# Altium footprint library SMD_R.PcbLib: 17 footprints (part 1 of 2)
Each footprint in its own frame and in the unit in brackets; x right, y up, seen from the top. Pads: shape width x height; smd on the part's side, far side on the other; paste and mask are expansions set on the pad; w line width, h text height; cw(c..) or ccw(c..) is an arc to the next point about the centre after c.
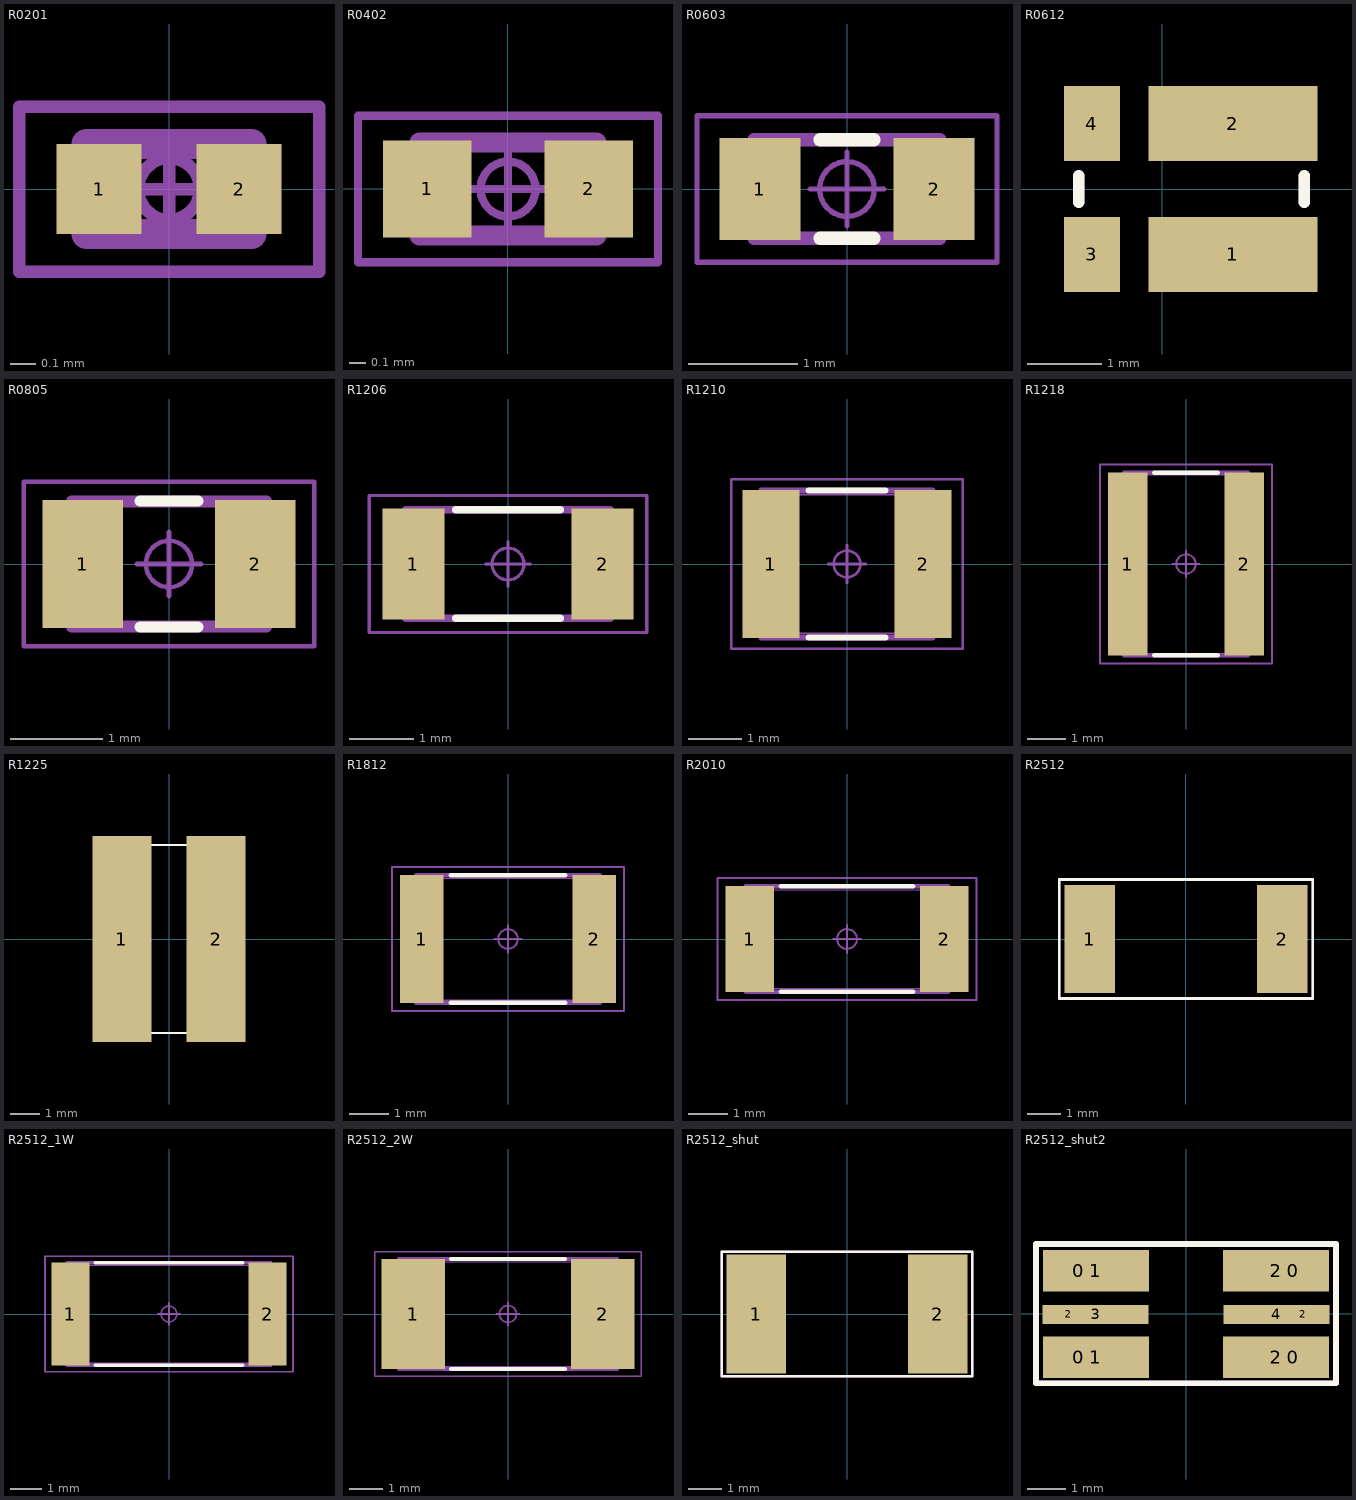
[diagram p0: the footprints below, top view; thin cyan lines are the x and y axes]

## R0201 [mm] "Resistor, Chip; 0.60 mm L X 0.30 mm W X 0.28 mm H body"
height 0.28
pads (2):
  rect 0.34x0.36 smd: 1(-0.28,0) 2(0.28,0)
Mechanical 11:
  circle w0.05: c0,0 r0.124
  lines w0.05: -0.165,0 0.165,0 ; 0,-0.165 0,0.165 ; -0.6,-0.33 0.6,-0.33 0.6,0.33 -0.6,0.33 -0.6,-0.33
Mechanical 12:
  lines w0.025: -0.3,-0.15 0.3,-0.15 ; -0.3,-0.15 -0.3,0.15 ; -0.3,-0.15 -0.3,0.15 ; -0.3,-0.15 -0.15,-0.15 -0.15,0.15 -0.3,0.15 ; -0.3,0.15 0.3,0.15 ; 0.3,-0.15 0.3,0.15 ; 0.3,-0.15 0.15,-0.15 0.15,0.15 0.3,0.15 ; 0.3,-0.15 0.3,0.15
Mechanical 15:
  lines w0.12: -0.33,-0.18 0.33,-0.18 0.33,0.18 -0.33,0.18 -0.33,-0.18
3D body "RES 0201.STEP": height 0.28, standoff 0, extent -0.3,-0.15 0.3,0.15

## R0402 [mm] "Resistor, Chip; 1.00 mm L X 0.50 mm W X 0.40 mm H body"
height 0.4
pads (2):
  rect 0.53x0.58 smd: 1(-0.485,0) 2(0.485,0)
Mechanical 11:
  circle w0.05: c0,0 r0.165
  lines w0.05: -0.22,0 0.22,0 ; 0,-0.22 0,0.22 ; -0.9,-0.44 0.9,-0.44 0.9,0.44 -0.9,0.44 -0.9,-0.44
Mechanical 12:
  lines w0.025: -0.5,-0.25 0.5,-0.25 ; -0.5,-0.25 -0.5,0.25 ; -0.5,-0.25 -0.5,0.25 ; -0.5,-0.25 -0.3,-0.25 -0.3,0.25 -0.5,0.25 ; -0.5,0.25 0.5,0.25 ; 0.5,-0.25 0.5,0.25 ; 0.5,-0.25 0.3,-0.25 0.3,0.25 0.5,0.25 ; 0.5,-0.25 0.5,0.25
Mechanical 15:
  lines w0.12: -0.53,-0.28 0.53,-0.28 0.53,0.28 -0.53,0.28 -0.53,-0.28
3D body "RES 0402.STEP": height 0.4, standoff 0, extent -0.5,-0.25 0.5,0.25

## R0603 [mm] "Resistor, Chip; 1.60 mm L X 0.80 mm W X 0.55 mm H body"
height 0.55
pads (2):
  rect 0.74x0.93 smd: 1(-0.795,0) 2(0.795,0)
Top Overlay:
  lines w0.12: -0.245,-0.45 0.245,-0.45 ; -0.245,0.45 0.245,0.45
Mechanical 11:
  circle w0.05: c0,0 r0.25
  lines w0.05: -0.335,0 0.335,0 ; 0,-0.335 0,0.335 ; -1.37,-0.67 -1.37,0.67 1.37,0.67 1.37,-0.67 -1.37,-0.67
Mechanical 12:
  lines w0.025: -0.8,-0.4 -0.55,-0.4 -0.55,0.4 -0.8,0.4 ; -0.8,-0.4 -0.8,0.4 ; -0.8,-0.4 -0.8,0.4 ; -0.8,-0.4 0.8,-0.4 ; -0.8,0.4 0.8,0.4 ; 0.8,-0.4 0.8,0.4 ; 0.8,-0.4 0.55,-0.4 0.55,0.4 0.8,0.4 ; 0.8,-0.4 0.8,0.4
Mechanical 15:
  lines w0.12: -0.85,-0.45 -0.85,0.45 0.85,0.45 0.85,-0.45 -0.85,-0.45
3D body "RES 0603.STEP": height 0.55, standoff 0, extent -0.8,-0.4 0.8,0.4

## R0612 [mm] "贴片电阻2512封装"
height 0.6
pads (4):
  rect 2.287x1.01 smd: 1(0.953,-0.885) 2(0.953,0.885)
  rect 0.762x1.01 smd: 3(-0.953,-0.885) 4(-0.953,0.885)
Top Overlay:
  lines w0.152: -1.13,-0.18 -1.13,0.18 ; 1.92,-0.18 1.92,0.18
Mechanical 15:
  lines w0.152: -1.13,-0.18 -1.13,0.18 ; 1.92,-0.18 1.92,0.18
3D body "R0612.stp": height 0.65, standoff 0, extent -1.131,-0.825 1.919,0.825

## R0805 [mm] "Resistor, Chip; 2.00 mm L X 1.25 mm W X 0.60 mm H body"
height 0.6
pads (2):
  rect 0.87x1.38 smd: 1(-0.93,0) 2(0.93,0)
Top Overlay:
  lines w0.12: -0.315,-0.68 0.315,-0.68 ; -0.315,0.68 0.315,0.68
Mechanical 11:
  circle w0.05: c0,0 r0.25
  lines w0.05: -0.35,0 0.35,0 ; 0,-0.35 0,0.35 ; -1.57,-0.89 -1.57,0.89 1.57,0.89 1.57,-0.89 -1.57,-0.89
Mechanical 12:
  lines w0.025: -1,-0.625 -0.65,-0.625 -0.65,0.625 -1,0.625 ; -1,-0.625 -1,0.625 ; -1,-0.625 -1,0.625 ; -1,-0.625 1,-0.625 ; -1,0.625 1,0.625 ; 1,-0.625 1,0.625 ; 1,-0.625 0.65,-0.625 0.65,0.625 1,0.625 ; 1,-0.625 1,0.625
Mechanical 15:
  lines w0.12: -1.05,-0.68 -1.05,0.68 1.05,0.68 1.05,-0.68 -1.05,-0.68
3D body "RES 0805.STEP": height 0.6, standoff 0, extent -1,-0.625 1,0.625

## R1206 [mm] "Resistor, Chip; 3.10 mm L X 1.60 mm W X 0.65 mm H body"
height 0.65
pads (2):
  rect 0.97x1.73 smd: 1(-1.48,0) 2(1.48,0)
Top Overlay:
  lines w0.12: -0.815,-0.85 0.815,-0.85 ; -0.815,0.85 0.815,0.85
Mechanical 11:
  circle w0.05: c0,0 r0.25
  lines w0.05: -0.35,0 0.35,0 ; 0,-0.35 0,0.35 ; -2.17,-1.07 2.17,-1.07 2.17,1.07 -2.17,1.07 -2.17,-1.07
Mechanical 12:
  lines w0.025: -1.55,-0.8 1.55,-0.8 ; -1.55,-0.8 -1.55,0.8 ; -1.55,-0.8 -1.55,0.8 ; -1.55,-0.8 -1.15,-0.8 -1.15,0.8 -1.55,0.8 ; -1.55,0.8 1.55,0.8 ; 1.55,-0.8 1.55,0.8 ; 1.55,-0.8 1.15,-0.8 1.15,0.8 1.55,0.8 ; 1.55,-0.8 1.55,0.8
Mechanical 15:
  lines w0.12: -1.6,-0.85 1.6,-0.85 1.6,0.85 -1.6,0.85 -1.6,-0.85
3D body "RES 1206.STEP": height 0.65, standoff 0, extent -1.55,-0.8 1.55,0.8

## R1210 [mm] "Resistor, Chip; 3.10 mm L X 2.60 mm W X 0.60 mm H body"
height 0.6
pads (2):
  rect 1.07x2.77 smd: 1(-1.43,0) 2(1.43,0)
Top Overlay:
  lines w0.12: -0.715,-1.38 0.715,-1.38 ; -0.715,1.38 0.715,1.38
Mechanical 11:
  circle w0.05: c0,0 r0.25
  lines w0.05: -0.35,0 0.35,0 ; 0,-0.35 0,0.35 ; -2.17,-1.59 2.17,-1.59 2.17,1.59 -2.17,1.59 -2.17,-1.59
Mechanical 12:
  lines w0.025: -1.55,-1.3 1.55,-1.3 ; -1.55,-1.3 -1.55,1.3 ; -1.55,-1.3 -1.55,1.3 ; -1.55,-1.3 -1.05,-1.3 -1.05,1.3 -1.55,1.3 ; -1.55,1.3 1.55,1.3 ; 1.55,-1.3 1.55,1.3 ; 1.55,-1.3 1.05,-1.3 1.05,1.3 1.55,1.3 ; 1.55,-1.3 1.55,1.3
Mechanical 15:
  lines w0.12: -1.6,-1.38 1.6,-1.38 1.6,1.38 -1.6,1.38 -1.6,-1.38
3D body "RES 1210.STEP": height 0.6, standoff 0, extent -1.55,-1.3 1.55,1.3

## R1218 [mm] "Resistor, Chip; 3.10 mm L X 4.60 mm W X 0.65 mm H body"
height 0.65
pads (2):
  rect 1.02x4.73 smd: 1(-1.505,0) 2(1.505,0)
Top Overlay:
  lines w0.12: -0.815,-2.35 0.815,-2.35 ; -0.815,2.35 0.815,2.35
Mechanical 11:
  circle w0.05: c0,0 r0.25
  lines w0.05: -0.35,0 0.35,0 ; 0,-0.35 0,0.35 ; -2.22,-2.57 -2.22,2.57 2.22,2.57 2.22,-2.57 -2.22,-2.57
Mechanical 12:
  lines w0.025: -1.55,-2.3 -1.15,-2.3 -1.15,2.3 -1.55,2.3 ; -1.55,-2.3 -1.55,2.3 ; -1.55,-2.3 -1.55,2.3 ; -1.55,-2.3 1.55,-2.3 ; -1.55,2.3 1.55,2.3 ; 1.55,-2.3 1.55,2.3 ; 1.55,-2.3 1.15,-2.3 1.15,2.3 1.55,2.3 ; 1.55,-2.3 1.55,2.3
Mechanical 15:
  lines w0.12: -1.6,-2.35 -1.6,2.35 1.6,2.35 1.6,-2.35 -1.6,-2.35
3D body "RES 1218.STEP": height 0.65, standoff 0, extent -1.55,-2.3 1.55,2.3

## R1225 [mm] "贴片电阻1225封装"
height 0.6
pads (2):
  rect 2x7 smd paste-3.048: 1(-1.6,0) 2(1.6,0)
Top Overlay:
  lines w0.076: -1.6,-3.2 1.6,-3.2 ; -1.6,3.2 1.6,3.2
Top Paste:
  drawing of 17 lines, arcs and shapes, not listed
Mechanical 15:
  lines w0.076: -1.6,-3.2 -1.6,3.2 1.6,3.2 1.6,-3.2 -1.6,-3.2
3D body "R1225.STEP": height 0.6, standoff -0.01, extent -1.55,-3.15 1.55,3.15

## R1812 [mm] "Resistor, Chip; 4.60 mm L X 3.10 mm W X 0.65 mm H body"
height 0.65
pads (2):
  rect 1.12x3.27 smd: 1(-2.205,0) 2(2.205,0)
Top Overlay:
  lines w0.12: -1.465,-1.63 1.465,-1.63 ; -1.465,1.63 1.465,1.63
Mechanical 11:
  circle w0.05: c0,0 r0.25
  lines w0.05: -0.35,0 0.35,0 ; 0,-0.35 0,0.35 ; -2.97,-1.84 -2.97,1.84 2.97,1.84 2.97,-1.84 -2.97,-1.84
Mechanical 12:
  lines w0.025: -2.3,-1.55 -1.8,-1.55 -1.8,1.55 -2.3,1.55 ; -2.3,-1.55 -2.3,1.55 ; -2.3,-1.55 -2.3,1.55 ; -2.3,-1.55 2.3,-1.55 ; -2.3,1.55 2.3,1.55 ; 2.3,-1.55 2.3,1.55 ; 2.3,-1.55 1.8,-1.55 1.8,1.55 2.3,1.55 ; 2.3,-1.55 2.3,1.55
Mechanical 15:
  lines w0.12: -2.35,-1.63 -2.35,1.63 2.35,1.63 2.35,-1.63 -2.35,-1.63
3D body "RES 1812.STEP": height 0.65, standoff 0, extent -2.3,-1.55 2.3,1.55

## R2010 [mm] "Resistor, Chip; 5.00 mm L X 2.50 mm W X 0.65 mm H body"
height 0.65
pads (2):
  rect 1.22x2.67 smd: 1(-2.455,0) 2(2.455,0)
Top Overlay:
  lines w0.12: -1.665,-1.33 1.665,-1.33 ; -1.665,1.33 1.665,1.33
Mechanical 11:
  circle w0.05: c0,0 r0.25
  lines w0.05: -0.35,0 0.35,0 ; 0,-0.35 0,0.35 ; -3.27,-1.54 3.27,-1.54 3.27,1.54 -3.27,1.54 -3.27,-1.54
Mechanical 12:
  lines w0.025: -2.5,-1.25 2.5,-1.25 ; -2.5,-1.25 -2.5,1.25 ; -2.5,-1.25 -2.5,1.25 ; -2.5,-1.25 -2,-1.25 -2,1.25 -2.5,1.25 ; -2.5,1.25 2.5,1.25 ; 2.5,-1.25 2.5,1.25 ; 2.5,-1.25 2,-1.25 2,1.25 2.5,1.25 ; 2.5,-1.25 2.5,1.25
Mechanical 15:
  lines w0.12: -2.55,-1.33 2.55,-1.33 2.55,1.33 -2.55,1.33 -2.55,-1.33
3D body "RES 2010.STEP": height 0.65, standoff 0, extent -2.5,-1.25 2.5,1.25

## R2512 [mm] "贴片电阻2512封装"
height 0.6
pads (2):
  rect 1.5x3.2 smd paste-3.048: 1(-2.85,0) 2(2.85,0)
Top Overlay:
  lines w0.076: -3.759,-1.765 3.759,-1.765 3.759,1.765 -3.759,1.765 -3.759,-1.765
Top Paste:
  drawing of 4 lines, arcs and shapes, not listed
Mechanical 15:
  lines w0.076: -3.759,-1.765 -3.759,1.765 3.759,1.765 3.759,-1.765 -3.759,-1.765
3D body "R2512.STEP": height 0.62, standoff 0, extent -3.15,-1.6 3.15,1.6

## R2512_1W [mm] "Resistor, Chip; 6.35 mm L X 3.10 mm W X 0.65 mm H body"
height 0.65
pads (2):
  rect 1.22x3.27 smd: 1(-3.13,0) 2(3.13,0)
Top Overlay:
  lines w0.12: -2.34,-1.63 2.34,-1.63 ; -2.34,1.63 2.34,1.63
Mechanical 11:
  circle w0.05: c0,0 r0.25
  lines w0.05: -0.35,0 0.35,0 ; 0,-0.35 0,0.35 ; -3.94,-1.84 -3.94,1.84 3.94,1.84 3.94,-1.84 -3.94,-1.84
Mechanical 12:
  lines w0.025: -3.175,-1.55 -2.675,-1.55 -2.675,1.55 -3.175,1.55 ; -3.175,-1.55 -3.175,1.55 ; -3.175,-1.55 -3.175,1.55 ; -3.175,-1.55 3.175,-1.55 ; -3.175,1.55 3.175,1.55 ; 3.175,-1.55 3.175,1.55 ; 3.175,-1.55 2.675,-1.55 2.675,1.55 3.175,1.55 ; 3.175,-1.55 3.175,1.55
Mechanical 15:
  lines w0.12: -3.23,-1.63 -3.23,1.63 3.23,1.63 3.23,-1.63 -3.23,-1.63
3D body "RES 2512 1W.STEP": height 0.65, standoff 0, extent -3.175,-1.55 3.175,1.55

## R2512_2W [mm] "Resistor, Chip; 6.35 mm L X 3.10 mm W X 0.65 mm H body"
height 0.65
pads (2):
  rect 1.87x3.27 smd: 1(-2.805,0) 2(2.805,0)
Top Overlay:
  lines w0.12: -1.69,-1.63 1.69,-1.63 ; -1.69,1.63 1.69,1.63
Mechanical 11:
  circle w0.05: c0,0 r0.25
  lines w0.05: -0.35,0 0.35,0 ; 0,-0.35 0,0.35 ; -3.94,-1.84 3.94,-1.84 3.94,1.84 -3.94,1.84 -3.94,-1.84
Mechanical 12:
  lines w0.025: -3.175,-1.55 3.175,-1.55 ; -3.175,-1.55 -3.175,1.55 ; -3.175,-1.55 -3.175,1.55 ; -3.175,-1.55 -2.025,-1.55 -2.025,1.55 -3.175,1.55 ; -3.175,1.55 3.175,1.55 ; 3.175,-1.55 3.175,1.55 ; 3.175,-1.55 2.025,-1.55 2.025,1.55 3.175,1.55 ; 3.175,-1.55 3.175,1.55
Mechanical 15:
  lines w0.12: -3.23,-1.63 3.23,-1.63 3.23,1.63 -3.23,1.63 -3.23,-1.63
3D body "RES 2512 2W.STEP": height 0.65, standoff 0, extent -3.175,-1.55 3.175,1.55

## R2512_shut [mm] "贴片电阻2512封装"
height 0.6
pads (2):
  rect 1.8x3.6 smd paste-3: 1(-2.75,0) 2(2.75,0)
Top Overlay:
  lines w0.076: -3.797,-1.892 3.797,-1.892 3.797,1.892 -3.797,1.892 -3.797,-1.892
Top Paste:
  drawing of 4 lines, arcs and shapes, not listed
Mechanical 15:
  lines w0.076: -3.797,-1.892 -3.797,1.892 3.797,1.892 3.797,-1.892 -3.797,-1.892
3D body "R2512-3.STEP": height 1.6, standoff 0, extent -3.175,-1.5 3.175,1.5

## R2512_shut2 [mm] "贴片电阻2512封装"
height 0.6
pads (12):
  rrect50% 1.73x0.95 on Top Paste: 0(-2.812,-1.143) 0(-2.812,1.125) 0(2.812,-1.143) 0(2.812,1.125)
  rect 2.785x1.1 smd paste-3: 1(-2.367,-1.143) 1(-2.367,1.125) 2(2.367,-1.143) 2(2.367,1.125)
  rrect50% 1.2x0.35 on Top Paste: 2(-3.082,-0.018) 2(3.082,-0.018)
  rect 2.785x0.5 smd paste-3: 3(-2.374,-0.018) 4(2.374,-0.018)
Top Overlay:
  lines w0.152: -3.937,-1.829 -3.937,1.829 3.937,1.829 3.937,-1.829 -3.937,-1.829
Mechanical 15:
  lines w0.152: -3.937,-1.829 3.937,-1.829 3.937,1.829 -3.937,1.829 -3.937,-1.829
3D body "R2512-3.STEP": height 1.6, standoff 0, extent -3.175,-1.5 3.175,1.5